# Altium integrated library INA168.IntLib: 1 symbol
Pins are listed as number, name and electrical type; pins without a type are passive.

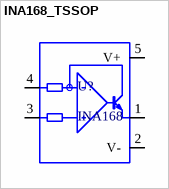
[diagram p0: symbol INA168_TSSOP]

## INA168_TSSOP
designator U?, comment INA168
Current Monitor Regulator High-Side 8TSSOP; MF: Texas Instruments; Package: SOT-23 Texas Instruments; MP: INA168; Value: *; SnapEDA_Link: https://www.snapeda.com/parts/INA168/Texas%20Instruments/view-part/1134/?ref=snap; Price: None; Availability: Unavailable
pins: 1 OUT, 2 V- (power), 3 IN+, 4 IN-, 5 V+ (power)